# EAGLE library part TDA7057Q (library Audio-Power-amlifier V.2.0)
The TDA7057Q is a stereo output amplifier in a 13 pin power package. The device is designed for battery-fed portable stereo recorders and radios, but also suitable for mains-fed applications.
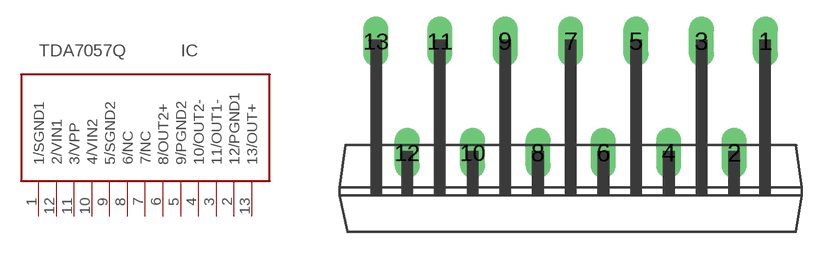
[diagram p115: symbol with the pads of SOT141-6; footprint SOT141-6]

Designator prefix IC

## TDA7057QDBS13P  [SOT141-6]
1  1/SGND1  pwr
2  12/PGND1  pwr
3  11/OUT1-  out
4  10/OUT2-  out
5  9/PGND2  pwr
6  8/OUT2+  out
7  7/NC  nc
8  6/NC  nc
9  5/SGND2  pwr
10  4/VIN2  in
11  3/VPP  pwr
12  2/VIN1  in
13  13/OUT+  out

## Footprint SOT141-6 (pad centres in mm)
drill 0.8 long: 1 10.12,5.8; 2 8.5,0; 3 6.8,5.8; 4 5.1,0; 5 3.4,5.8; 6 1.7,0; 7 0,5.8; 8 -1.7,0; 9 -3.4,5.8; 10 -5.1,0; 11 -6.8,5.8; 12 -8.5,0; 13 -10.12,5.8